# Altium schematic symbol library CY7C65634.Schlib: 1 symbol
Pins are listed as number, name and electrical type; pins without a type are passive.

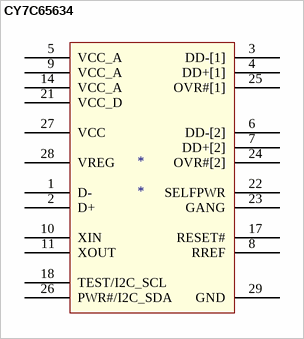
[diagram p0: symbol CY7C65634]

## CY7C65634
designator *
pins: 1 D-, 2 D+, 3 DD-[1], 4 DD+[1], 5 VCC_A, 6 DD-[2], 7 DD+[2], 8 RREF, 9 VCC_A, 10 XIN, 11 XOUT, 14 VCC_A, 17 RESET#, 18 TEST/I2C_SCL, 21 VCC_D, 22 SELFPWR, 23 GANG, 24 OVR#[2], 25 OVR#[1], 26 PWR#/I2C_SDA, 27 VCC, 28 VREG, 29 GND